# EAGLE library part CON_MIL_10 (library mylib_20130829)
MIL Box Pinheader : 10Pin
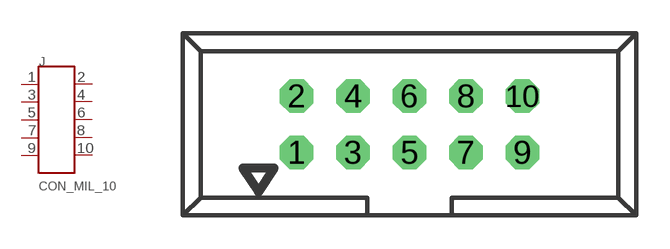
[diagram p26: symbol with the pads of CON_MIL_10; footprint CON_MIL_10]

Designator prefix J

## CON_MIL_10  [CON_MIL_10]
1  1
2  2
3  3
4  4
5  5
6  6
7  7
8  8
9  9
10  10

## Footprint CON_MIL_10 (pad centres in mm)
drill 1 octagon: 1 -5.08,-1.27; 2 -5.08,1.27; 3 -2.54,-1.27; 4 -2.54,1.27; 5 0,-1.27; 6 0,1.27; 7 2.54,-1.27; 8 2.54,1.27; 9 5.08,-1.27; 10 5.08,1.27